# Altium schematic symbol library MA710GQ-Z.SchLib: 1 symbol
Pins are listed as number, name and electrical type; pins without a type are passive.

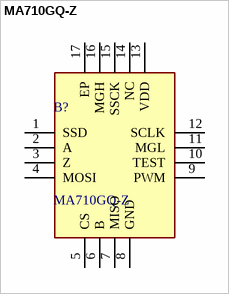
[diagram p0: symbol MA710GQ-Z]

## MA710GQ-Z
designator B?
Board Mount Hall Effect / Magnetic Sensors 12-bit, digital, contactless angle sensor with ABZ incremental & PWM outputs; Manufacturer_Name: Monolithic Power Systems (MPS); Geometry.Height: 1mm; Manufacturer_Part_Number: MA710GQ-Z; Mouser Part Number: 946-MA710GQ-Z; Mouser Price/Stock: https://www.mouser.co.uk/ProductDetail/Monolithic-Power-Systems-MPS/MA710GQ-Z?qs=YCa%2FAAYMW008m2sVybM2dg%3D%3D; Arrow Part Number: *; Arrow Price/Stock: *; Datasheet Link: https://mouser.componentsearchengine.com/Datasheets/1/MA710GQ-Z.pdf
footprint QFN50P300X300X100-17N-D
pins: 1 SSD, 2 A, 3 Z, 4 MOSI, 5 CS, 6 B, 7 MISO, 8 GND, 9 PWM, 10 TEST, 11 MGL, 12 SCLK, 13 VDD, 14 NC, 15 SSCK, 16 MGH, 17 EP